# Altium footprint library ebf_h743iit6 motor dev board_PCB封装_AD格式.PcbLib: 53 footprints (part 3 of 4)
Each footprint in its own frame and in the unit in brackets; x right, y up, seen from the top. Pads: shape width x height; smd on the part's side, far side on the other; paste and mask are expansions set on the pad; w line width, h text height; cw(c..) or ccw(c..) is an arc to the next point about the centre after c.
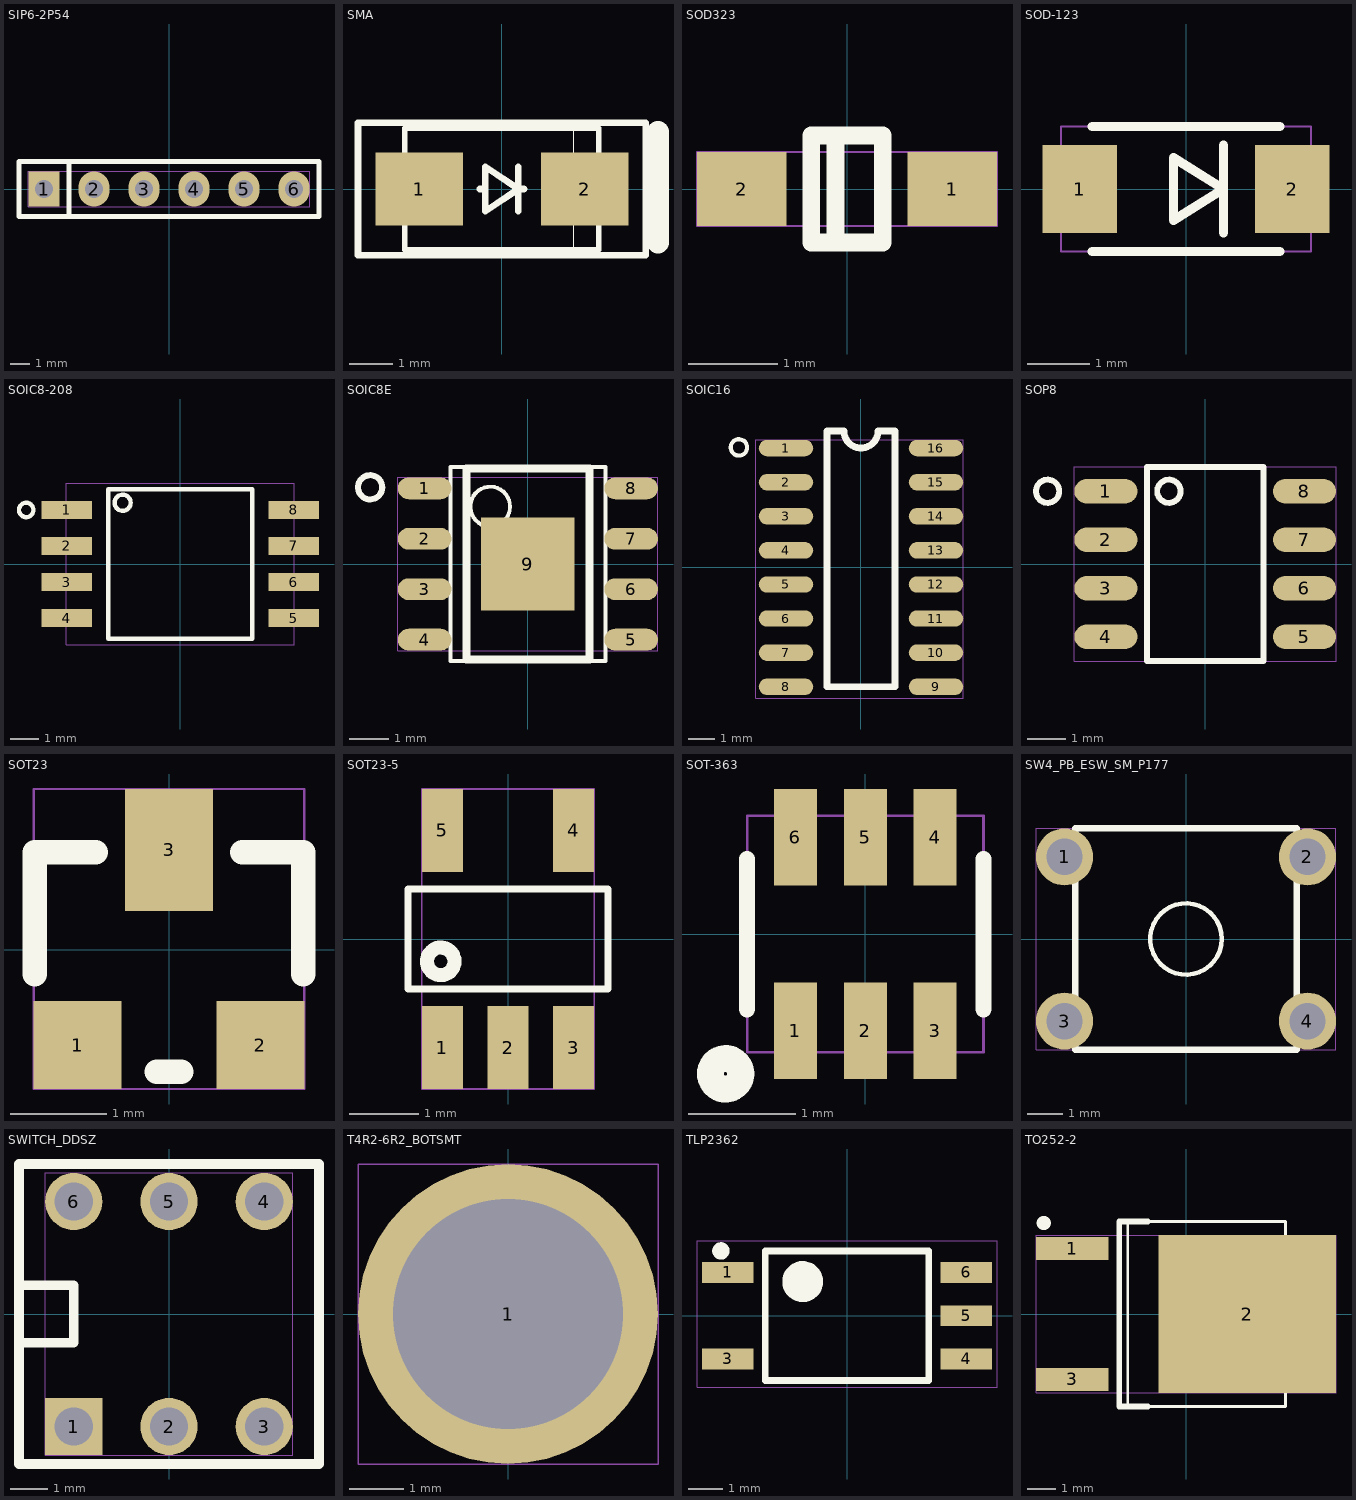
[diagram p2: the footprints below, top view; thin cyan lines are the x and y axes]

## SIP6-2P54 [mil]
pads (6):
  rect 62.99x70.87 hole 35.43 mask+1.97: 1(-250,0)
  oval 62.99x70.87 hole 35.43 mask+1.97: 2(-150,0) 3(-50,0) 4(50,0) 5(150,0) 6(250,0)
Top Overlay:
  lines w10: -200,-55.12 -200,55.12 ; -300,-55.12 300,-55.12 300,55.12 -300,55.12 -300,-55.12
Top Assembly:
  text "J9" at -33.81,-25 h50
Mechanical 20:
  lines w1: -281.5,-35.43 -281.5,35.43 281.5,35.43 281.5,-35.43 -281.5,-35.43

## SMA [mil]
pads (2):
  rect 79x66 smd mask+3: 1(-74.8,0) 2(74.8,0)
Top Overlay:
  lines w1: 65,-55 90,-55 90,55 65,55 65,-55
  lines w5: -87.56,-30 -102.56,-30 -102.56,30 -87.56,30 ; 87.56,-30 102.56,-30 102.56,30 87.56,30 ; -87.56,-55 -87.56,55 87.56,55 87.56,-55 -87.56,-55
  lines w6: -20,0 -15,0 ; 15,-20 15,20 ; 20,0 15,0 ; 15,0 -15,20 -15,-20 15,0 ; -130,-60 -130,60 130,60 130,-60 -130,-60
  lines w19.69: 141.17,-48.28 141.17,51.72
Top Assembly:
  text "D4" at -40.12,-25 h50
Mechanical 20:
  lines w1: -130,-60 -130,60 130,60 130,-60 -130,-60

## SOD323 [mm]
pads (2):
  rect 1x0.83 smd mask+0.05: 1(1.18,0) 2(-1.18,0)
Top Overlay:
  lines w0.2: -0.13,-0.6 -0.13,0.6 ; -0.4,-0.6 -0.4,0.6 0.4,0.6 0.4,-0.6 -0.4,-0.6
Top Assembly:
  text "Z9" at -0.958,-0.635 h1.27
Mechanical 20:
  lines w0.025: -1.68,-0.415 1.68,-0.415 1.68,0.415 -1.68,0.415 -1.68,-0.415

## SOD-123 [mil]
pads (2):
  rect 47.24x55.12 smd mask+1.97: 1(-66.93,0) 2(66.93,0)
Top Overlay:
  lines w5.91: -59.06,-39.37 59.06,-39.37 ; -59.06,39.37 59.06,39.37 ; 23.62,-27.56 23.62,27.56 ; -7.87,-19.69 23.62,0 -7.87,19.69 -7.87,-19.69
Top Assembly:
  text "D44" at 62.37,25 h50
Mechanical 20:
  lines w1: -78.74,-39.37 78.74,-39.37 78.74,39.37 -78.74,39.37 -78.74,-39.37

## SOIC8-208 [mil]
pads (8):
  rect 70x25 smd mask+2: 1(-157.48,75) 2(-157.48,25) 3(-157.48,-25) 4(-157.48,-75) 5(157.48,-75) 6(157.48,-25) 7(157.48,25) 8(157.48,75)
Top Overlay:
  circle w6: c-213.78,75 r10
  circle w6: c-80,85 r11.18
  lines w6: -100,-103.94 -100,103.94 ; -100,-103.94 100,-103.94 ; -100,-103.94 -100,103.94 ; -100,-103.94 100,-103.94 ; -100,103.94 100,103.94 ; -100,103.94 100,103.94 ; 100,-103.94 100,103.94 ; 100,-103.94 100,103.94
Top Assembly:
  text "U5" at 40.23,25 h50
Mechanical 20:
  lines w1: -158.2,-112 158.2,-112 158.2,112 -158.2,112 -158.2,-112

## SOIC8E [mm]
pads (9):
  oval 1.35x0.55 smd mask+0.05: 1(-2.6,1.905) 2(-2.6,0.635) 3(-2.6,-0.635) 4(-2.6,-1.905) 5(2.6,-1.905) 6(2.6,-0.635) 7(2.6,0.635) 8(2.6,1.905)
  rect 2.35x2.35 smd mask+0.05: 9(0,0)
Top Overlay:
  circle w0.152: c-3.972,1.93 r0.305
  circle w0.1: c-0.95,1.445 r0.5
  lines w0.1: -1.95,-2.445 -1.95,2.445 1.95,2.445 1.95,-2.445 -1.95,-2.445
  lines w0.2: -1.55,-2.4 -1.55,2.4 1.55,2.4 1.55,-2.4 -1.55,-2.4
Top Assembly:
  text "U1" at -0.75,-0.635 h1.27
Mechanical 20:
  lines w0.025: -3.275,-2.18 3.275,-2.18 3.275,2.18 -3.275,2.18 -3.275,-2.18

## SOIC16 [mil]
pads (16):
  oval 80x24 smd mask+2.5: 1(-110,175) 2(-110,125) 3(-110,75) 4(-110,25) 5(-110,-25) 6(-110,-75) 7(-110,-125) 8(-110,-175) 9(110,-175) 10(110,-125) 11(110,-75) 12(110,-25) 13(110,25) 14(110,75) 15(110,125) 16(110,175)
Top Overlay:
  circle w5.98: c-179.02,175.99 r12.02
  lines w10: -50,-175 -50,200 -25,200 ccw(c0,200) 25,200 50,200 50,-175 -50,-175
Top Assembly:
  text "U8" at 40.23,25 h50
Mechanical 20:
  lines w1: -154,-192 150,-192 150,187 -154,187 -154,-192

## SOP8 [mil]
pads (8):
  oval 65x25 smd mask+1.97: 1(-102.36,75) 2(-102.36,25) 3(-102.36,-25) 4(-102.36,-75) 5(102.36,-75) 6(102.36,-25) 7(102.36,25) 8(102.36,75)
Top Overlay:
  circle w6: c-162.36,75 r12
  circle w6: c-37.36,75 r12
  lines w6: -60,-100 60,-100 60,100 -60,100 -60,-100
Top Assembly:
  text "U6" at -39.04,-25 h50
Mechanical 20:
  lines w1: -134.86,-100 -134.86,100 134.86,100 134.86,-100 -134.86,-100

## SOT23 [mil]
pads (3):
  rect 36x36 smd mask+1.97: 1(-37.5,-39) 2(37.5,-39)
  rect 36x50 smd mask+1.97: 3(0,41)
Top Overlay:
  lines w10: -55,-10 -55,40 -30,40 ; -5,-50 5,-50 ; 30,40 55,40 55,-10
Top Assembly:
  text "Q6" at -40.35,-27.38 h50
Mechanical 20:
  lines w1: -55.5,-57 55.5,-57 55.5,66 -55.5,66 -55.5,-57

## SOT23-5 [mil]
pads (5):
  rect 23.62x47.24 smd mask+1.97: 1(-37.4,-62.01) 2(0,-62.01) 3(37.4,-62.01) 4(37.4,62.01) 5(-37.4,62.01)
Top Overlay:
  circle w8: c-38.4,-12.79 r7.87
  lines w4: -57.09,-28.54 -57.09,18.7 -57.09,28.54 57.09,28.54 57.09,18.7 57.09,-28.54 -57.09,-28.54
Top Assembly:
  text "U26" at -61.3,-25 h50
Mechanical 20:
  lines w1: -49.21,-85.63 49.21,-85.63 49.21,85.63 -49.21,85.63 -49.21,-85.63

## SOT-363 [mm]
pads (6):
  rect 0.4x0.9 smd mask+0.05: 1(-0.65,-0.9) 2(0,-0.9) 3(0.65,-0.9) 4(0.65,0.9) 5(0,0.9) 6(-0.65,0.9)
Top Overlay:
  circle w0.25: c-1.3,-1.3 r0.142
  lines w0.15: -1.1,-0.7 -1.1,0.7 ; 1.1,-0.7 1.1,0.7
Top Assembly:
  text "U23" at -1.587,-0.635 h1.27
Mechanical 20:
  lines w0.025: -1.1,-1.1 1.1,-1.1 1.1,1.1 -1.1,1.1 -1.1,-1.1

## SW4_PB_ESW_SM_P177 [mil]
pads (4):
  round 63 hole 40 mask+2.5: 1(-133.86,90.55) 2(133.86,90.55) 3(-133.86,-90.55) 4(133.86,-90.55)
Top Overlay:
  circle w5: c0,0 r39.37
  lines w7: -122.05,-122.05 122.05,-122.05 122.05,122.05 -122.05,122.05 -122.05,-122.05
Top Assembly:
  text "SW7" at -67.73,-25 h50
Mechanical 20:
  lines w1: -165.35,-122.05 165.35,-122.05 165.35,122.05 -165.35,122.05 -165.35,-122.05

## SWITCH_DDSZ [mil]
pads (6):
  rect 60x60 / inner round 60 / far side rect 60x60 hole 40 mask+2.5: 1(-100,-118.11)
  round 60 hole 40 mask+2.5: 2(0,-118.11) 3(100,-118.11) 4(100,118.11) 5(0,118.11) 6(-100,118.11)
Top Overlay:
  lines w10: -157.48,-30 -100,-30 -100,30 -157.48,30 ; -157.48,-157.48 -157.48,157.48 157.48,157.48 157.48,-157.48 -157.48,-157.48
Top Assembly:
  text "SW1" at -57.02,-25 h50
Mechanical 20:
  lines w1: -130,-148.11 130,-148.11 130,148.11 -130,148.11 -130,-148.11

## T4R2-6R2_BOTSMT [mil]
pads (1):
  round 216.54 / inner round 216.54 / far side round 244.09 hole 166.14 mask+1.97: 1(0,0)
Top Assembly:
  text "H4" at -41.42,-25 h50
Mechanical 20:
  lines w1: -108.27,-108.27 108.27,-108.27 108.27,108.27 -108.27,108.27 -108.27,-108.27

## TLP2362 [mil]
pads (5):
  rect 59.84x24.02 smd: 1(-137.8,50) 3(-137.8,-50) 4(137.8,-50) 5(137.8,0) 6(137.8,50)
Top Overlay:
  circle w9.84: c-145.67,74.8 r5.12
  circle w23.62: c-51.18,39.37 r11.81
  lines w7.87: -94.49,-74.8 -94.49,74.8 94.49,74.8 94.49,-74.8 -94.49,-74.8
Top Assembly:
  text "OP7" at 63.8,25 h50
Mechanical 20:
  lines w1: -173.23,-82.68 173.23,-82.68 173.23,86.61 -173.23,86.61 -173.23,-82.68

## TO252-2 [mil]
pads (3):
  rect 100.39x31.5 smd mask+1.97: 1(-157.48,90.55) 3(-157.48,-90.55)
  rect 246.06x218.5 smd mask+1.97: 2(84.65,0)
Top Overlay:
  circle w9.84: c-196.85,125.98 r4.92
  lines w3.94: 137.8,-105.04 155.35,-105.04 190.94,-65.59 190.94,65.59 155.35,105.04 137.8,105.04 ; -80.71,-127.95 -80.71,127.95 137.8,127.95 137.8,-127.95 -80.71,-127.95
  lines w7.87: -53.15,-127.95 -92.52,-127.95 -92.52,127.95 -53.15,127.95
Top Assembly:
  text "U3" at 40.23,25 h50
Mechanical 20:
  lines w1: -207.68,-109.25 207.68,-109.25 207.68,109.25 -207.68,109.25 -207.68,-109.25